# Altium integrated library TSS-120-01-T-D.IntLib: 1 symbol
Pins are listed as number, name and electrical type; pins without a type are passive.

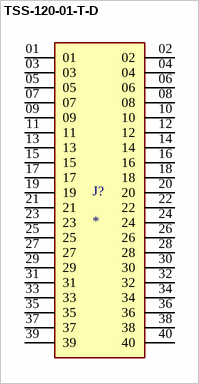
[diagram p0: symbol TSS-120-01-T-D]

## TSS-120-01-T-D
designator J?
Connector Header Through Hole 40 position 0.100 (2.54mm); MF: Samtec; MP: TSS-120-01-T-D; Check_prices: https://www.snapeda.com/parts/TSS-120-01-T-D/Samtec/view-part/?ref=eda; Availability: In Stock; Price: None; Package: None; Value: *; Purchase-URL: https://pricing.snapeda.com/search/part/TSS-120-01-T-D/?ref=eda; SnapEDA_Link: https://www.snapeda.com/parts/TSS-120-01-T-D/Samtec/view-part/?ref=snap
footprint SAMTEC_TSS-120-01-T-D
pins: 01, 02, 03, 04, 05, 06, 07, 08, 09, 10, 11, 12, 13, 14, 15, 16, 17, 18, 19, 20, 21, 22, 23, 24, 25, 26, 27, 28, 29, 30, 31, 32, 33, 34, 35, 36, 37, 38, 39, 40